# Altium integrated library Linear Technology Power Management LED Driver ICs.IntLib: 490 symbols (part 36 of 48)
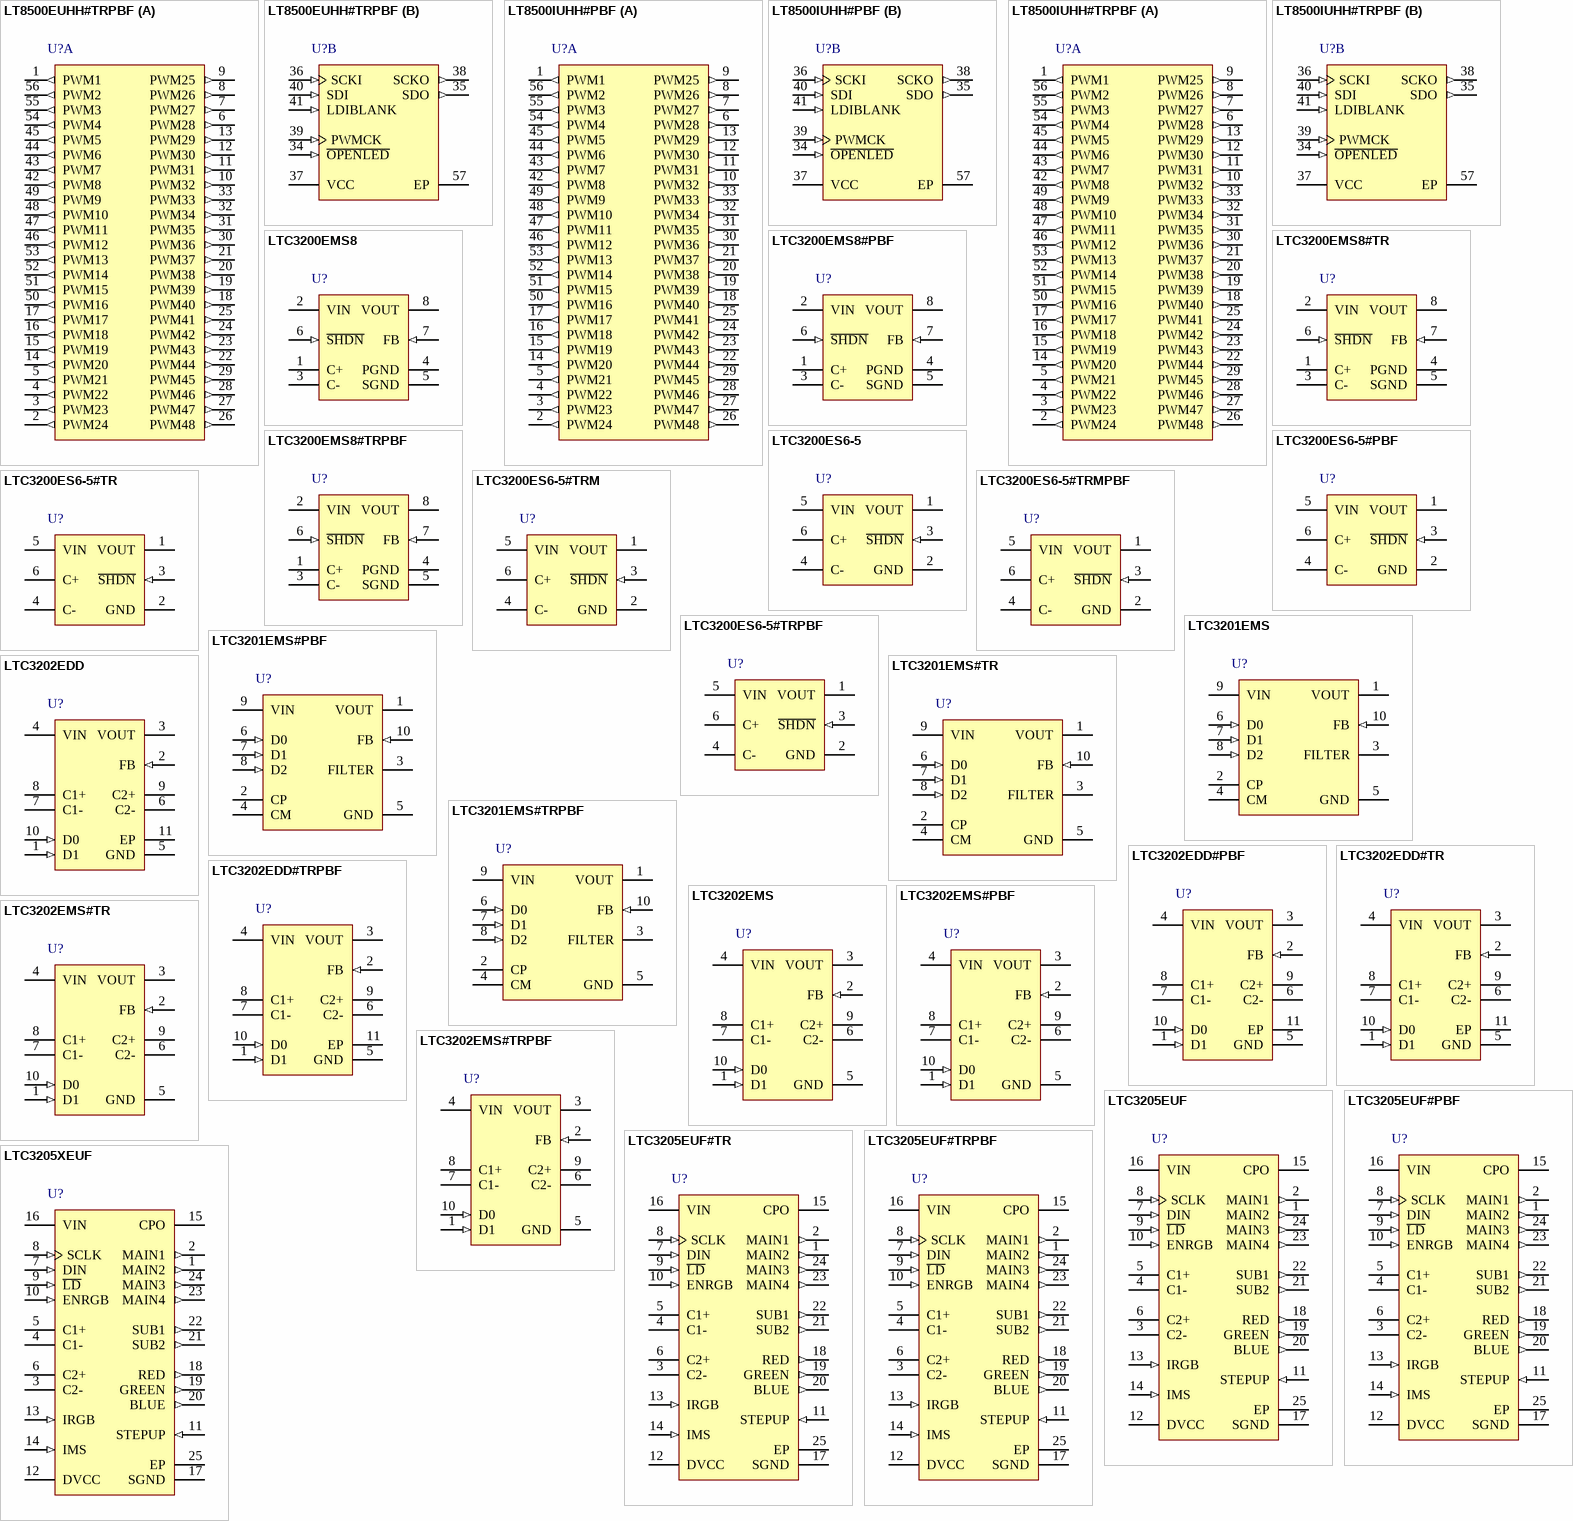
[diagram p55: symbols LT8500EUHH#TRPBF to LTC3205XEUF]

## LT8500IUHH#PBF
designator U?
48-Channel LED PWM Generator with 12-Bit Resolution and 50 MHz Cascadable Serial Interface, 3 to 5.5 V Vin, 56-pin QFN (UHH-56), -40 to 125 degC, Pb-Free; Manufacturer: Linear Technology; PartNumber: LT8500IUHH#PBF; Vin Min(V): 3; PackageVersion: Rev. A, 06/2010; PackageReference: UHH-56; PackageDescription: 56-Pin Plastic QFN, Body 5 x 9 mm, Pitch 0.4 mm; Supplier 1: Digi-Key; Supplier Part Number 1: LT8500IUHH#PBF-ND; RoHS: TRUE; Topology: PWM Generator; Mounting Technology: Surface Mount; ComponentLink1Description: Manufacturer URL; ComponentLink1URL: http://www.linear.com/; ComponentLink2Description: Datasheet; ComponentLink2URL: http://cds.linear.com/docs/en/datasheet/8500f.pdf; ComponentLink3Description: Package Specification; ComponentLink3URL: http://cds.linear.com/docs/en/packaging/QFN_56_05-08-1727.pdf
footprint LT-UHH-56_N (QFN, 56-Leads, Body 9.1x5.1mm, Pitch 0.4mm, Thermal Pad 7.13x3.45mm, IPC Medium Density)
footprint LT-UHH-56_L (QFN, 56-Leads, Body 9.1x5.1mm, Pitch 0.4mm, Thermal Pad 7.13x3.45mm, IPC High Density)
footprint LT-UHH-56_M (QFN, 56-Leads, Body 9.1x5.1mm, Pitch 0.4mm, Thermal Pad 7.13x3.45mm, IPC Low Density)
part A pins: 1 PWM1 (out) "Pulse Width Modulated (PWM) Output Pins. Pulse width is determined by comparing the value in the PWMRSYNC latches to an internal PWMCK counter. Outputs are high when the value in the PWMCK counter is less than the value in (See Datasheet)", 2 PWM24 (out) "Pulse Width Modulated (PWM) Output Pins. Pulse width is determined by comparing the value in the PWMRSYNC latches to an internal PWMCK counter. Outputs are high when the value in the PWMCK counter is less than the value in (See Datasheet)", 3 PWM23 (out) "Pulse Width Modulated (PWM) Output Pins. Pulse width is determined by comparing the value in the PWMRSYNC latches to an internal PWMCK counter. Outputs are high when the value in the PWMCK counter is less than the value in (See Datasheet)", 4 PWM22 (out) "Pulse Width Modulated (PWM) Output Pins. Pulse width is determined by comparing the value in the PWMRSYNC latches to an internal PWMCK counter. Outputs are high when the value in the PWMCK counter is less than the value in (See Datasheet)", 5 PWM21 (out) "Pulse Width Modulated (PWM) Output Pins. Pulse width is determined by comparing the value in the PWMRSYNC latches to an internal PWMCK counter. Outputs are high when the value in the PWMCK counter is less than the value in (See Datasheet)", 6 PWM28 (out) "Pulse Width Modulated (PWM) Output Pins. Pulse width is determined by comparing the value in the PWMRSYNC latches to an internal PWMCK counter. Outputs are high when the value in the PWMCK counter is less than the value in (See Datasheet)", 7 PWM27 (out) "Pulse Width Modulated (PWM) Output Pins. Pulse width is determined by comparing the value in the PWMRSYNC latches to an internal PWMCK counter. Outputs are high when the value in the PWMCK counter is less than the value in (See Datasheet)", 8 PWM26 (out) "Pulse Width Modulated (PWM) Output Pins. Pulse width is determined by comparing the value in the PWMRSYNC latches to an internal PWMCK counter. Outputs are high when the value in the PWMCK counter is less than the value in (See Datasheet)", 9 PWM25 (out) "Pulse Width Modulated (PWM) Output Pins. Pulse width is determined by comparing the value in the PWMRSYNC latches to an internal PWMCK counter. Outputs are high when the value in the PWMCK counter is less than the value in (See Datasheet)", 10 PWM32 (out) "Pulse Width Modulated (PWM) Output Pins. Pulse width is determined by comparing the value in the PWMRSYNC latches to an internal PWMCK counter. Outputs are high when the value in the PWMCK counter is less than the value in (See Datasheet)", 11 PWM31 (out) "Pulse Width Modulated (PWM) Output Pins. Pulse width is determined by comparing the value in the PWMRSYNC latches to an internal PWMCK counter. Outputs are high when the value in the PWMCK counter is less than the value in (See Datasheet)", 12 PWM30 (out) "Pulse Width Modulated (PWM) Output Pins. Pulse width is determined by comparing the value in the PWMRSYNC latches to an internal PWMCK counter. Outputs are high when the value in the PWMCK counter is less than the value in (See Datasheet)", 13 PWM29 (out) "Pulse Width Modulated (PWM) Output Pins. Pulse width is determined by comparing the value in the PWMRSYNC latches to an internal PWMCK counter. Outputs are high when the value in the PWMCK counter is less than the value in (See Datasheet)", 14 PWM20 (out) "Pulse Width Modulated (PWM) Output Pins. Pulse width is determined by comparing the value in the PWMRSYNC latches to an internal PWMCK counter. Outputs are high when the value in the PWMCK counter is less than the value in (See Datasheet)", 15 PWM19 (out) "Pulse Width Modulated (PWM) Output Pins. Pulse width is determined by comparing the value in the PWMRSYNC latches to an internal PWMCK counter. Outputs are high when the value in the PWMCK counter is less than the value in (See Datasheet)", 16 PWM18 (out) "Pulse Width Modulated (PWM) Output Pins. Pulse width is determined by comparing the value in the PWMRSYNC latches to an internal PWMCK counter. Outputs are high when the value in the PWMCK counter is less than the value in (See Datasheet)", 17 PWM17 (out) "Pulse Width Modulated (PWM) Output Pins. Pulse width is determined by comparing the value in the PWMRSYNC latches to an internal PWMCK counter. Outputs are high when the value in the PWMCK counter is less than the value in (See Datasheet)", 18 PWM40 (out) "Pulse Width Modulated (PWM) Output Pins. Pulse width is determined by comparing the value in the PWMRSYNC latches to an internal PWMCK counter. Outputs are high when the value in the PWMCK counter is less than the value in (See Datasheet)", 19 PWM39 (out) "Pulse Width Modulated (PWM) Output Pins. Pulse width is determined by comparing the value in the PWMRSYNC latches to an internal PWMCK counter. Outputs are high when the value in the PWMCK counter is less than the value in (See Datasheet)", 20 PWM38 (out) "Pulse Width Modulated (PWM) Output Pins. Pulse width is determined by comparing the value in the PWMRSYNC latches to an internal PWMCK counter. Outputs are high when the value in the PWMCK counter is less than the value in (See Datasheet)", 21 PWM37 (out) "Pulse Width Modulated (PWM) Output Pins. Pulse width is determined by comparing the value in the PWMRSYNC latches to an internal PWMCK counter. Outputs are high when the value in the PWMCK counter is less than the value in (See Datasheet)", 22 PWM44 (out) "Pulse Width Modulated (PWM) Output Pins. Pulse width is determined by comparing the value in the PWMRSYNC latches to an internal PWMCK counter. Outputs are high when the value in the PWMCK counter is less than the value in (See Datasheet)", 23 PWM43 (out) "Pulse Width Modulated (PWM) Output Pins. Pulse width is determined by comparing the value in the PWMRSYNC latches to an internal PWMCK counter. Outputs are high when the value in the PWMCK counter is less than the value in (See Datasheet)", 24 PWM42 (out) "Pulse Width Modulated (PWM) Output Pins. Pulse width is determined by comparing the value in the PWMRSYNC latches to an internal PWMCK counter. Outputs are high when the value in the PWMCK counter is less than the value in (See Datasheet)", 25 PWM41 (out) "Pulse Width Modulated (PWM) Output Pins. Pulse width is determined by comparing the value in the PWMRSYNC latches to an internal PWMCK counter. Outputs are high when the value in the PWMCK counter is less than the value in (See Datasheet)", 26 PWM48 (out) "Pulse Width Modulated (PWM) Output Pins. Pulse width is determined by comparing the value in the PWMRSYNC latches to an internal PWMCK counter. Outputs are high when the value in the PWMCK counter is less than the value in (See Datasheet)", 27 PWM47 (out) "Pulse Width Modulated (PWM) Output Pins. Pulse width is determined by comparing the value in the PWMRSYNC latches to an internal PWMCK counter. Outputs are high when the value in the PWMCK counter is less than the value in (See Datasheet)", 28 PWM46 (out) "Pulse Width Modulated (PWM) Output Pins. Pulse width is determined by comparing the value in the PWMRSYNC latches to an internal PWMCK counter. Outputs are high when the value in the PWMCK counter is less than the value in (See Datasheet)", 29 PWM45 (out) "Pulse Width Modulated (PWM) Output Pins. Pulse width is determined by comparing the value in the PWMRSYNC latches to an internal PWMCK counter. Outputs are high when the value in the PWMCK counter is less than the value in (See Datasheet)", 30 PWM36 (out) "Pulse Width Modulated (PWM) Output Pins. Pulse width is determined by comparing the value in the PWMRSYNC latches to an internal PWMCK counter. Outputs are high when the value in the PWMCK counter is less than the value in (See Datasheet)", 31 PWM35 (out) "Pulse Width Modulated (PWM) Output Pins. Pulse width is determined by comparing the value in the PWMRSYNC latches to an internal PWMCK counter. Outputs are high when the value in the PWMCK counter is less than the value in (See Datasheet)", 32 PWM34 (out) "Pulse Width Modulated (PWM) Output Pins. Pulse width is determined by comparing the value in the PWMRSYNC latches to an internal PWMCK counter. Outputs are high when the value in the PWMCK counter is less than the value in (See Datasheet)", 33 PWM33 (out) "Pulse Width Modulated (PWM) Output Pins. Pulse width is determined by comparing the value in the PWMRSYNC latches to an internal PWMCK counter. Outputs are high when the value in the PWMCK counter is less than the value in (See Datasheet)", 42 PWM8 (out) "Pulse Width Modulated (PWM) Output Pins. Pulse width is determined by comparing the value in the PWMRSYNC latches to an internal PWMCK counter. Outputs are high when the value in the PWMCK counter is less than the value in (See Datasheet)", 43 PWM7 (out) "Pulse Width Modulated (PWM) Output Pins. Pulse width is determined by comparing the value in the PWMRSYNC latches to an internal PWMCK counter. Outputs are high when the value in the PWMCK counter is less than the value in (See Datasheet)", 44 PWM6 (out) "Pulse Width Modulated (PWM) Output Pins. Pulse width is determined by comparing the value in the PWMRSYNC latches to an internal PWMCK counter. Outputs are high when the value in the PWMCK counter is less than the value in (See Datasheet)", 45 PWM5 (out) "Pulse Width Modulated (PWM) Output Pins. Pulse width is determined by comparing the value in the PWMRSYNC latches to an internal PWMCK counter. Outputs are high when the value in the PWMCK counter is less than the value in (See Datasheet)", 46 PWM12 (out) "Pulse Width Modulated (PWM) Output Pins. Pulse width is determined by comparing the value in the PWMRSYNC latches to an internal PWMCK counter. Outputs are high when the value in the PWMCK counter is less than the value in (See Datasheet)", 47 PWM11 (out) "Pulse Width Modulated (PWM) Output Pins. Pulse width is determined by comparing the value in the PWMRSYNC latches to an internal PWMCK counter. Outputs are high when the value in the PWMCK counter is less than the value in (See Datasheet)", 48 PWM10 (out) "Pulse Width Modulated (PWM) Output Pins. Pulse width is determined by comparing the value in the PWMRSYNC latches to an internal PWMCK counter. Outputs are high when the value in the PWMCK counter is less than the value in (See Datasheet)", 49 PWM9 (out) "Pulse Width Modulated (PWM) Output Pins. Pulse width is determined by comparing the value in the PWMRSYNC latches to an internal PWMCK counter. Outputs are high when the value in the PWMCK counter is less than the value in (See Datasheet)", 50 PWM16 (out) "Pulse Width Modulated (PWM) Output Pins. Pulse width is determined by comparing the value in the PWMRSYNC latches to an internal PWMCK counter. Outputs are high when the value in the PWMCK counter is less than the value in (See Datasheet)", 51 PWM15 (out) "Pulse Width Modulated (PWM) Output Pins. Pulse width is determined by comparing the value in the PWMRSYNC latches to an internal PWMCK counter. Outputs are high when the value in the PWMCK counter is less than the value in (See Datasheet)", 52 PWM14 (out) "Pulse Width Modulated (PWM) Output Pins. Pulse width is determined by comparing the value in the PWMRSYNC latches to an internal PWMCK counter. Outputs are high when the value in the PWMCK counter is less than the value in (See Datasheet)", 53 PWM13 (out) "Pulse Width Modulated (PWM) Output Pins. Pulse width is determined by comparing the value in the PWMRSYNC latches to an internal PWMCK counter. Outputs are high when the value in the PWMCK counter is less than the value in (See Datasheet)", 54 PWM4 (out) "Pulse Width Modulated (PWM) Output Pins. Pulse width is determined by comparing the value in the PWMRSYNC latches to an internal PWMCK counter. Outputs are high when the value in the PWMCK counter is less than the value in (See Datasheet)", 55 PWM3 (out) "Pulse Width Modulated (PWM) Output Pins. Pulse width is determined by comparing the value in the PWMRSYNC latches to an internal PWMCK counter. Outputs are high when the value in the PWMCK counter is less than the value in (See Datasheet)", 56 PWM2 (out) "Pulse Width Modulated (PWM) Output Pins. Pulse width is determined by comparing the value in the PWMRSYNC latches to an internal PWMCK counter. Outputs are high when the value in the PWMCK counter is less than the value in (See Datasheet)"
part B pins: 34 ~{OPENLED} (in) "Not Open LED Input Pin. This input passes diagnostic information to the host via the status frame. When used with LT3595A LED drivers, it connects to the wired-OR (open collector) O\P\E\N\L\E\D\ outputs which indicate an (See Datasheet)", 35 SDO (out) "Serial Data Output Pin. This pin is the output of the shift register (SR), and cascades data to downstream chips or returns data to the host.", 36 SCKI (in) "Serial Clock Input Pin. This clock pin provides timing for the serial interface and the calculation of PWM values in the correction multiplier. This clock is independent of PWMCK.", 37 VCC (power) "Supply Pin. 3.0V to 5.5V. Must be locally bypassed with a capacitor to ground.", 38 SCKO (out) "Serial Clock Output Pin. Buffered pass through of SCKI. This pin cascades the clock to the next chip or to the host.", 39 PWMCK (in) "PWM Clock Input Pin. This pin provides PWM timing for the outputs. Each PWM signal is generated by counting the pulses on this clock from zero to the calculated value in the PWM synchronization register (PWMRSYNC). This (See Datasheet)", 40 SDI (in) "Serial Data Input Pin. This pin provides serial interface data to issue commands and set up the individual PWM channels.", 41 LDIBLANK (in) "Latch Data In/Blank Input Pin. This is a dual function pin. LDI Function: The internal LDI signal is directly connected to the LDIBLANK pin. A logic high on the pin always asserts the LDI function. The rising edge of (See Datasheet)", 57 EP (power) "This is the ground reference for the chip."

## LT8500IUHH#TRPBF
designator U?
48-Channel LED PWM Generator with 12-Bit Resolution and 50 MHz Cascadable Serial Interface, 3 to 5.5 V Vin, 56-pin QFN (UHH-56), -40 to 125 degC, Pb-Free, Tape and Reel; Manufacturer: Linear Technology; PartNumber: LT8500IUHH#TRPBF; Vin Min(V): 3; PackageVersion: Rev. A, 06/2010; PackageReference: UHH-56; PackageDescription: 56-Pin Plastic QFN, Body 5 x 9 mm, Pitch 0.4 mm; Supplier 1: Digi-Key; Supplier Part Number 1: LT8500IUHH#TRPBF-ND; Packing: Tape and Reel; RoHS: TRUE; Topology: PWM Generator; Mounting Technology: Surface Mount; ComponentLink1Description: Manufacturer URL; ComponentLink1URL: http://www.linear.com/; ComponentLink2Description: Datasheet; ComponentLink2URL: http://cds.linear.com/docs/en/datasheet/8500f.pdf; ComponentLink3Description: Package Specification; ComponentLink3URL: http://cds.linear.com/docs/en/packaging/QFN_56_05-08-1727.pdf
footprint LT-UHH-56_N (QFN, 56-Leads, Body 9.1x5.1mm, Pitch 0.4mm, Thermal Pad 7.13x3.45mm, IPC Medium Density)
footprint LT-UHH-56_L (QFN, 56-Leads, Body 9.1x5.1mm, Pitch 0.4mm, Thermal Pad 7.13x3.45mm, IPC High Density)
footprint LT-UHH-56_M (QFN, 56-Leads, Body 9.1x5.1mm, Pitch 0.4mm, Thermal Pad 7.13x3.45mm, IPC Low Density)
part A pins: 1 PWM1 (out) "Pulse Width Modulated (PWM) Output Pins. Pulse width is determined by comparing the value in the PWMRSYNC latches to an internal PWMCK counter. Outputs are high when the value in the PWMCK counter is less than the value in (See Datasheet)", 2 PWM24 (out) "Pulse Width Modulated (PWM) Output Pins. Pulse width is determined by comparing the value in the PWMRSYNC latches to an internal PWMCK counter. Outputs are high when the value in the PWMCK counter is less than the value in (See Datasheet)", 3 PWM23 (out) "Pulse Width Modulated (PWM) Output Pins. Pulse width is determined by comparing the value in the PWMRSYNC latches to an internal PWMCK counter. Outputs are high when the value in the PWMCK counter is less than the value in (See Datasheet)", 4 PWM22 (out) "Pulse Width Modulated (PWM) Output Pins. Pulse width is determined by comparing the value in the PWMRSYNC latches to an internal PWMCK counter. Outputs are high when the value in the PWMCK counter is less than the value in (See Datasheet)", 5 PWM21 (out) "Pulse Width Modulated (PWM) Output Pins. Pulse width is determined by comparing the value in the PWMRSYNC latches to an internal PWMCK counter. Outputs are high when the value in the PWMCK counter is less than the value in (See Datasheet)", 6 PWM28 (out) "Pulse Width Modulated (PWM) Output Pins. Pulse width is determined by comparing the value in the PWMRSYNC latches to an internal PWMCK counter. Outputs are high when the value in the PWMCK counter is less than the value in (See Datasheet)", 7 PWM27 (out) "Pulse Width Modulated (PWM) Output Pins. Pulse width is determined by comparing the value in the PWMRSYNC latches to an internal PWMCK counter. Outputs are high when the value in the PWMCK counter is less than the value in (See Datasheet)", 8 PWM26 (out) "Pulse Width Modulated (PWM) Output Pins. Pulse width is determined by comparing the value in the PWMRSYNC latches to an internal PWMCK counter. Outputs are high when the value in the PWMCK counter is less than the value in (See Datasheet)", 9 PWM25 (out) "Pulse Width Modulated (PWM) Output Pins. Pulse width is determined by comparing the value in the PWMRSYNC latches to an internal PWMCK counter. Outputs are high when the value in the PWMCK counter is less than the value in (See Datasheet)", 10 PWM32 (out) "Pulse Width Modulated (PWM) Output Pins. Pulse width is determined by comparing the value in the PWMRSYNC latches to an internal PWMCK counter. Outputs are high when the value in the PWMCK counter is less than the value in (See Datasheet)", 11 PWM31 (out) "Pulse Width Modulated (PWM) Output Pins. Pulse width is determined by comparing the value in the PWMRSYNC latches to an internal PWMCK counter. Outputs are high when the value in the PWMCK counter is less than the value in (See Datasheet)", 12 PWM30 (out) "Pulse Width Modulated (PWM) Output Pins. Pulse width is determined by comparing the value in the PWMRSYNC latches to an internal PWMCK counter. Outputs are high when the value in the PWMCK counter is less than the value in (See Datasheet)", 13 PWM29 (out) "Pulse Width Modulated (PWM) Output Pins. Pulse width is determined by comparing the value in the PWMRSYNC latches to an internal PWMCK counter. Outputs are high when the value in the PWMCK counter is less than the value in (See Datasheet)", 14 PWM20 (out) "Pulse Width Modulated (PWM) Output Pins. Pulse width is determined by comparing the value in the PWMRSYNC latches to an internal PWMCK counter. Outputs are high when the value in the PWMCK counter is less than the value in (See Datasheet)", 15 PWM19 (out) "Pulse Width Modulated (PWM) Output Pins. Pulse width is determined by comparing the value in the PWMRSYNC latches to an internal PWMCK counter. Outputs are high when the value in the PWMCK counter is less than the value in (See Datasheet)", 16 PWM18 (out) "Pulse Width Modulated (PWM) Output Pins. Pulse width is determined by comparing the value in the PWMRSYNC latches to an internal PWMCK counter. Outputs are high when the value in the PWMCK counter is less than the value in (See Datasheet)", 17 PWM17 (out) "Pulse Width Modulated (PWM) Output Pins. Pulse width is determined by comparing the value in the PWMRSYNC latches to an internal PWMCK counter. Outputs are high when the value in the PWMCK counter is less than the value in (See Datasheet)", 18 PWM40 (out) "Pulse Width Modulated (PWM) Output Pins. Pulse width is determined by comparing the value in the PWMRSYNC latches to an internal PWMCK counter. Outputs are high when the value in the PWMCK counter is less than the value in (See Datasheet)", 19 PWM39 (out) "Pulse Width Modulated (PWM) Output Pins. Pulse width is determined by comparing the value in the PWMRSYNC latches to an internal PWMCK counter. Outputs are high when the value in the PWMCK counter is less than the value in (See Datasheet)", 20 PWM38 (out) "Pulse Width Modulated (PWM) Output Pins. Pulse width is determined by comparing the value in the PWMRSYNC latches to an internal PWMCK counter. Outputs are high when the value in the PWMCK counter is less than the value in (See Datasheet)", 21 PWM37 (out) "Pulse Width Modulated (PWM) Output Pins. Pulse width is determined by comparing the value in the PWMRSYNC latches to an internal PWMCK counter. Outputs are high when the value in the PWMCK counter is less than the value in (See Datasheet)", 22 PWM44 (out) "Pulse Width Modulated (PWM) Output Pins. Pulse width is determined by comparing the value in the PWMRSYNC latches to an internal PWMCK counter. Outputs are high when the value in the PWMCK counter is less than the value in (See Datasheet)", 23 PWM43 (out) "Pulse Width Modulated (PWM) Output Pins. Pulse width is determined by comparing the value in the PWMRSYNC latches to an internal PWMCK counter. Outputs are high when the value in the PWMCK counter is less than the value in (See Datasheet)", 24 PWM42 (out) "Pulse Width Modulated (PWM) Output Pins. Pulse width is determined by comparing the value in the PWMRSYNC latches to an internal PWMCK counter. Outputs are high when the value in the PWMCK counter is less than the value in (See Datasheet)", 25 PWM41 (out) "Pulse Width Modulated (PWM) Output Pins. Pulse width is determined by comparing the value in the PWMRSYNC latches to an internal PWMCK counter. Outputs are high when the value in the PWMCK counter is less than the value in (See Datasheet)", 26 PWM48 (out) "Pulse Width Modulated (PWM) Output Pins. Pulse width is determined by comparing the value in the PWMRSYNC latches to an internal PWMCK counter. Outputs are high when the value in the PWMCK counter is less than the value in (See Datasheet)", 27 PWM47 (out) "Pulse Width Modulated (PWM) Output Pins. Pulse width is determined by comparing the value in the PWMRSYNC latches to an internal PWMCK counter. Outputs are high when the value in the PWMCK counter is less than the value in (See Datasheet)", 28 PWM46 (out) "Pulse Width Modulated (PWM) Output Pins. Pulse width is determined by comparing the value in the PWMRSYNC latches to an internal PWMCK counter. Outputs are high when the value in the PWMCK counter is less than the value in (See Datasheet)", 29 PWM45 (out) "Pulse Width Modulated (PWM) Output Pins. Pulse width is determined by comparing the value in the PWMRSYNC latches to an internal PWMCK counter. Outputs are high when the value in the PWMCK counter is less than the value in (See Datasheet)", 30 PWM36 (out) "Pulse Width Modulated (PWM) Output Pins. Pulse width is determined by comparing the value in the PWMRSYNC latches to an internal PWMCK counter. Outputs are high when the value in the PWMCK counter is less than the value in (See Datasheet)", 31 PWM35 (out) "Pulse Width Modulated (PWM) Output Pins. Pulse width is determined by comparing the value in the PWMRSYNC latches to an internal PWMCK counter. Outputs are high when the value in the PWMCK counter is less than the value in (See Datasheet)", 32 PWM34 (out) "Pulse Width Modulated (PWM) Output Pins. Pulse width is determined by comparing the value in the PWMRSYNC latches to an internal PWMCK counter. Outputs are high when the value in the PWMCK counter is less than the value in (See Datasheet)", 33 PWM33 (out) "Pulse Width Modulated (PWM) Output Pins. Pulse width is determined by comparing the value in the PWMRSYNC latches to an internal PWMCK counter. Outputs are high when the value in the PWMCK counter is less than the value in (See Datasheet)", 42 PWM8 (out) "Pulse Width Modulated (PWM) Output Pins. Pulse width is determined by comparing the value in the PWMRSYNC latches to an internal PWMCK counter. Outputs are high when the value in the PWMCK counter is less than the value in (See Datasheet)", 43 PWM7 (out) "Pulse Width Modulated (PWM) Output Pins. Pulse width is determined by comparing the value in the PWMRSYNC latches to an internal PWMCK counter. Outputs are high when the value in the PWMCK counter is less than the value in (See Datasheet)", 44 PWM6 (out) "Pulse Width Modulated (PWM) Output Pins. Pulse width is determined by comparing the value in the PWMRSYNC latches to an internal PWMCK counter. Outputs are high when the value in the PWMCK counter is less than the value in (See Datasheet)", 45 PWM5 (out) "Pulse Width Modulated (PWM) Output Pins. Pulse width is determined by comparing the value in the PWMRSYNC latches to an internal PWMCK counter. Outputs are high when the value in the PWMCK counter is less than the value in (See Datasheet)", 46 PWM12 (out) "Pulse Width Modulated (PWM) Output Pins. Pulse width is determined by comparing the value in the PWMRSYNC latches to an internal PWMCK counter. Outputs are high when the value in the PWMCK counter is less than the value in (See Datasheet)", 47 PWM11 (out) "Pulse Width Modulated (PWM) Output Pins. Pulse width is determined by comparing the value in the PWMRSYNC latches to an internal PWMCK counter. Outputs are high when the value in the PWMCK counter is less than the value in (See Datasheet)", 48 PWM10 (out) "Pulse Width Modulated (PWM) Output Pins. Pulse width is determined by comparing the value in the PWMRSYNC latches to an internal PWMCK counter. Outputs are high when the value in the PWMCK counter is less than the value in (See Datasheet)", 49 PWM9 (out) "Pulse Width Modulated (PWM) Output Pins. Pulse width is determined by comparing the value in the PWMRSYNC latches to an internal PWMCK counter. Outputs are high when the value in the PWMCK counter is less than the value in (See Datasheet)", 50 PWM16 (out) "Pulse Width Modulated (PWM) Output Pins. Pulse width is determined by comparing the value in the PWMRSYNC latches to an internal PWMCK counter. Outputs are high when the value in the PWMCK counter is less than the value in (See Datasheet)", 51 PWM15 (out) "Pulse Width Modulated (PWM) Output Pins. Pulse width is determined by comparing the value in the PWMRSYNC latches to an internal PWMCK counter. Outputs are high when the value in the PWMCK counter is less than the value in (See Datasheet)", 52 PWM14 (out) "Pulse Width Modulated (PWM) Output Pins. Pulse width is determined by comparing the value in the PWMRSYNC latches to an internal PWMCK counter. Outputs are high when the value in the PWMCK counter is less than the value in (See Datasheet)", 53 PWM13 (out) "Pulse Width Modulated (PWM) Output Pins. Pulse width is determined by comparing the value in the PWMRSYNC latches to an internal PWMCK counter. Outputs are high when the value in the PWMCK counter is less than the value in (See Datasheet)", 54 PWM4 (out) "Pulse Width Modulated (PWM) Output Pins. Pulse width is determined by comparing the value in the PWMRSYNC latches to an internal PWMCK counter. Outputs are high when the value in the PWMCK counter is less than the value in (See Datasheet)", 55 PWM3 (out) "Pulse Width Modulated (PWM) Output Pins. Pulse width is determined by comparing the value in the PWMRSYNC latches to an internal PWMCK counter. Outputs are high when the value in the PWMCK counter is less than the value in (See Datasheet)", 56 PWM2 (out) "Pulse Width Modulated (PWM) Output Pins. Pulse width is determined by comparing the value in the PWMRSYNC latches to an internal PWMCK counter. Outputs are high when the value in the PWMCK counter is less than the value in (See Datasheet)"
part B pins: 34 ~{OPENLED} (in) "Not Open LED Input Pin. This input passes diagnostic information to the host via the status frame. When used with LT3595A LED drivers, it connects to the wired-OR (open collector) O\P\E\N\L\E\D\ outputs which indicate an (See Datasheet)", 35 SDO (out) "Serial Data Output Pin. This pin is the output of the shift register (SR), and cascades data to downstream chips or returns data to the host.", 36 SCKI (in) "Serial Clock Input Pin. This clock pin provides timing for the serial interface and the calculation of PWM values in the correction multiplier. This clock is independent of PWMCK.", 37 VCC (power) "Supply Pin. 3.0V to 5.5V. Must be locally bypassed with a capacitor to ground.", 38 SCKO (out) "Serial Clock Output Pin. Buffered pass through of SCKI. This pin cascades the clock to the next chip or to the host.", 39 PWMCK (in) "PWM Clock Input Pin. This pin provides PWM timing for the outputs. Each PWM signal is generated by counting the pulses on this clock from zero to the calculated value in the PWM synchronization register (PWMRSYNC). This (See Datasheet)", 40 SDI (in) "Serial Data Input Pin. This pin provides serial interface data to issue commands and set up the individual PWM channels.", 41 LDIBLANK (in) "Latch Data In/Blank Input Pin. This is a dual function pin. LDI Function: The internal LDI signal is directly connected to the LDIBLANK pin. A logic high on the pin always asserts the LDI function. The rising edge of (See Datasheet)", 57 EP (power) "This is the ground reference for the chip."

## LTC3200EMS8
designator U?
Low Noise, Doubler / White LED Driver, 2.7 to 4.5 V Vin, 5.2 V Vout MAX, 8-pin SOP (MS8-8), -40 to 85 degC; Manufacturer: Linear Technology; PartNumber: LTC3200EMS8; Topology: Charge Pump, LED Driver; Vin Min(V): 2.7; PackageVersion: Rev. G, 03/2012; PackageReference: MS8-8; PackageDescription: 8-Pin Plastic MSOP, Body 3 x 3 mm, Pitch 0.65 mm; Supplier 1: Digi-Key; Supplier Part Number 1: LTC3200EMS8-ND; Supplier 2: Newark; Supplier Part Number 2: 56M7317; RoHS: FALSE; Mounting Technology: Surface Mount; ComponentLink1Description: Manufacturer URL; ComponentLink1URL: http://www.linear.com/; ComponentLink2Description: Datasheet; ComponentLink2URL: http://cds.linear.com/docs/en/datasheet/32005f.pdf; ComponentLink3Description: Package Specification; ComponentLink3URL: http://cds.linear.com/docs/en/packaging/05081660_G_MS8.pdf
footprint LT-MS8-8_N (SOP, 8-Leads, Body 3.1x3.1mm, Pitch 0.65mm, IPC Medium Density)
footprint LT-MS8-8_L (SOP, 8-Leads, Body 3.1x3.1mm, Pitch 0.65mm, IPC High Density)
footprint LT-MS8-8_M (SOP, 8-Leads, Body 3.1x3.1mm, Pitch 0.65mm, IPC Low Density)
pins: 1 C+ "Flying Capacitor Positive Terminal.", 2 VIN (power) "Input Supply Voltage. VIN should be bypassed with a 1uF to 4.7uF low ESR ceramic capacitor.", 3 C- "Flying Capacitor Negative Terminal.", 4 PGND (power) "Ground. Should be tied to a ground plane for best performance.", 5 SGND (power) "Ground. Should be tied to a ground plane for best performance.", 6 ~{SHDN} (in) "Active Low Shutdown Input. A low on S\H\D\N\ disables the LTC3200/LTC3200-5. S\H\D\N\ must not be allowed to float.", 7 FB (in) "Feedback Input Pin. An output divider should be connected from VOUT to FB to program the output voltage.", 8 VOUT (power) "Regulated Output Voltage. VOUT should be bypassed with a 1uF to 4.7uF low ESR ceramic capacitor as close as possible to the pin for best performance."

## LTC3200EMS8#PBF
designator U?
Low Noise, Doubler / White LED Driver, 2.7 to 4.5 V Vin, 5.2 V Vout MAX, 8-pin SOP (MS8-8), -40 to 85 degC, Pb-Free; Manufacturer: Linear Technology; PartNumber: LTC3200EMS8#PBF; Topology: Charge Pump, LED Driver; Vin Min(V): 2.7; PackageVersion: Rev. G, 03/2012; PackageReference: MS8-8; PackageDescription: 8-Pin Plastic MSOP, Body 3 x 3 mm, Pitch 0.65 mm; Supplier 1: Digi-Key; Supplier Part Number 1: LTC3200EMS8#PBF-ND; Supplier 2: Newark; Supplier Part Number 2: 56M7318; RoHS: TRUE; Mounting Technology: Surface Mount; ComponentLink1Description: Manufacturer URL; ComponentLink1URL: http://www.linear.com/; ComponentLink2Description: Datasheet; ComponentLink2URL: http://cds.linear.com/docs/en/datasheet/32005f.pdf; ComponentLink3Description: Package Specification; ComponentLink3URL: http://cds.linear.com/docs/en/packaging/05081660_G_MS8.pdf
footprint LT-MS8-8_N (SOP, 8-Leads, Body 3.1x3.1mm, Pitch 0.65mm, IPC Medium Density)
footprint LT-MS8-8_L (SOP, 8-Leads, Body 3.1x3.1mm, Pitch 0.65mm, IPC High Density)
footprint LT-MS8-8_M (SOP, 8-Leads, Body 3.1x3.1mm, Pitch 0.65mm, IPC Low Density)
pins: 1 C+ "Flying Capacitor Positive Terminal.", 2 VIN (power) "Input Supply Voltage. VIN should be bypassed with a 1uF to 4.7uF low ESR ceramic capacitor.", 3 C- "Flying Capacitor Negative Terminal.", 4 PGND (power) "Ground. Should be tied to a ground plane for best performance.", 5 SGND (power) "Ground. Should be tied to a ground plane for best performance.", 6 ~{SHDN} (in) "Active Low Shutdown Input. A low on S\H\D\N\ disables the LTC3200/LTC3200-5. S\H\D\N\ must not be allowed to float.", 7 FB (in) "Feedback Input Pin. An output divider should be connected from VOUT to FB to program the output voltage.", 8 VOUT (power) "Regulated Output Voltage. VOUT should be bypassed with a 1uF to 4.7uF low ESR ceramic capacitor as close as possible to the pin for best performance."

## LTC3200EMS8#TR
designator U?
Low Noise, Doubler / White LED Driver, 2.7 to 4.5 V Vin, 5.2 V Vout MAX, 8-pin SOP (MS8-8), -40 to 85 degC, Tape and Reel; Manufacturer: Linear Technology; PartNumber: LTC3200EMS8#TR; Topology: Charge Pump, LED Driver; Vin Min(V): 2.7; PackageVersion: Rev. G, 03/2012; PackageReference: MS8-8; PackageDescription: 8-Pin Plastic MSOP, Body 3 x 3 mm, Pitch 0.65 mm; Supplier 1: Digi-Key; Supplier Part Number 1: LTC3200EMS8#TR-ND; Packing: Tape and Reel; RoHS: FALSE; Mounting Technology: Surface Mount; ComponentLink1Description: Manufacturer URL; ComponentLink1URL: http://www.linear.com/; ComponentLink2Description: Datasheet; ComponentLink2URL: http://cds.linear.com/docs/en/datasheet/32005f.pdf; ComponentLink3Description: Package Specification; ComponentLink3URL: http://cds.linear.com/docs/en/packaging/05081660_G_MS8.pdf
footprint LT-MS8-8_N (SOP, 8-Leads, Body 3.1x3.1mm, Pitch 0.65mm, IPC Medium Density)
footprint LT-MS8-8_L (SOP, 8-Leads, Body 3.1x3.1mm, Pitch 0.65mm, IPC High Density)
footprint LT-MS8-8_M (SOP, 8-Leads, Body 3.1x3.1mm, Pitch 0.65mm, IPC Low Density)
pins: 1 C+ "Flying Capacitor Positive Terminal.", 2 VIN (power) "Input Supply Voltage. VIN should be bypassed with a 1uF to 4.7uF low ESR ceramic capacitor.", 3 C- "Flying Capacitor Negative Terminal.", 4 PGND (power) "Ground. Should be tied to a ground plane for best performance.", 5 SGND (power) "Ground. Should be tied to a ground plane for best performance.", 6 ~{SHDN} (in) "Active Low Shutdown Input. A low on S\H\D\N\ disables the LTC3200/LTC3200-5. S\H\D\N\ must not be allowed to float.", 7 FB (in) "Feedback Input Pin. An output divider should be connected from VOUT to FB to program the output voltage.", 8 VOUT (power) "Regulated Output Voltage. VOUT should be bypassed with a 1uF to 4.7uF low ESR ceramic capacitor as close as possible to the pin for best performance."

## LTC3200EMS8#TRPBF
designator U?
Low Noise, Doubler / White LED Driver, 2.7 to 4.5 V Vin, 5.2 V Vout MAX, 8-pin SOP (MS8-8), -40 to 85 degC, Pb-Free, Tape and Reel; Manufacturer: Linear Technology; PartNumber: LTC3200EMS8#TRPBF; Topology: Charge Pump, LED Driver; Vin Min(V): 2.7; PackageVersion: Rev. G, 03/2012; PackageReference: MS8-8; PackageDescription: 8-Pin Plastic MSOP, Body 3 x 3 mm, Pitch 0.65 mm; Supplier 1: Digi-Key; Supplier Part Number 1: LTC3200EMS8#TRPBF-ND; Packing: Tape and Reel; RoHS: TRUE; Mounting Technology: Surface Mount; ComponentLink1Description: Manufacturer URL; ComponentLink1URL: http://www.linear.com/; ComponentLink2Description: Datasheet; ComponentLink2URL: http://cds.linear.com/docs/en/datasheet/32005f.pdf; ComponentLink3Description: Package Specification; ComponentLink3URL: http://cds.linear.com/docs/en/packaging/05081660_G_MS8.pdf
footprint LT-MS8-8_N (SOP, 8-Leads, Body 3.1x3.1mm, Pitch 0.65mm, IPC Medium Density)
footprint LT-MS8-8_L (SOP, 8-Leads, Body 3.1x3.1mm, Pitch 0.65mm, IPC High Density)
footprint LT-MS8-8_M (SOP, 8-Leads, Body 3.1x3.1mm, Pitch 0.65mm, IPC Low Density)
pins: 1 C+ "Flying Capacitor Positive Terminal.", 2 VIN (power) "Input Supply Voltage. VIN should be bypassed with a 1uF to 4.7uF low ESR ceramic capacitor.", 3 C- "Flying Capacitor Negative Terminal.", 4 PGND (power) "Ground. Should be tied to a ground plane for best performance.", 5 SGND (power) "Ground. Should be tied to a ground plane for best performance.", 6 ~{SHDN} (in) "Active Low Shutdown Input. A low on S\H\D\N\ disables the LTC3200/LTC3200-5. S\H\D\N\ must not be allowed to float.", 7 FB (in) "Feedback Input Pin. An output divider should be connected from VOUT to FB to program the output voltage.", 8 VOUT (power) "Regulated Output Voltage. VOUT should be bypassed with a 1uF to 4.7uF low ESR ceramic capacitor as close as possible to the pin for best performance."

## LTC3200ES6-5
designator U?
Low Noise, Doubler / White LED Driver, 2.7 to 4.5 V Vin, 5 V Vout MAX, 6-pin SOT23 (S6-6), -40 to 85 degC; Manufacturer: Linear Technology; PartNumber: LTC3200ES6-5; Topology: Charge Pump, LED Driver; Vin Min(V): 2.7; PackageVersion: Jun-10; PackageReference: S6-6; PackageDescription: 6-Pin Plastic TSOT-23, Body 2.9 x 1.63 mm, Pitch 0.95 mm; RoHS: FALSE; Mounting Technology: Surface Mount; Code_JEDEC: MO-193; ComponentLink1Description: Manufacturer URL; ComponentLink1URL: http://www.linear.com/; ComponentLink2Description: Datasheet; ComponentLink2URL: http://cds.linear.com/docs/en/datasheet/32005f.pdf; ComponentLink3Description: Package Specification; ComponentLink3URL: http://cds.linear.com/docs/en/packaging/SOT_6_05-08-1636.pdf
footprint LT-S6-6-TSOT-23_N (SOT23, 6-Leads, Body 2.9x1.75mm, Pitch 0.95mm, IPC Medium Density)
footprint LT-S6-6-TSOT-23_L (SOT23, 6-Leads, Body 2.9x1.75mm, Pitch 0.95mm, IPC High Density)
footprint LT-S6-6-TSOT-23_M (SOT23, 6-Leads, Body 2.9x1.75mm, Pitch 0.95mm, IPC Low Density)
pins: 1 VOUT (power), 2 GND (power) "Ground. Should be tied to a ground plane for best performance.", 3 ~{SHDN} (in), 4 C- "Flying Capacitor Negative Terminal", 5 VIN (power), 6 C+ "Flying Capacitor Positive Terminal."

## LTC3200ES6-5#PBF
designator U?
Low Noise, Doubler / White LED Driver, 2.7 to 4.5 V Vin, 5 V Vout MAX, 6-pin SOT23 (S6-6), -40 to 85 degC, Pb-Free; Manufacturer: Linear Technology; PartNumber: LTC3200ES6-5#PBF; Topology: Charge Pump, LED Driver; Vin Min(V): 2.7; PackageVersion: Jun-10; PackageReference: S6-6; PackageDescription: 6-Pin Plastic TSOT-23, Body 2.9 x 1.63 mm, Pitch 0.95 mm; Supplier 1: Farnell; Supplier Part Number 1: 2308139; Supplier 2: Newark; Supplier Part Number 2: 78T3157; RoHS: TRUE; Mounting Technology: Surface Mount; Code_JEDEC: MO-193; ComponentLink1Description: Manufacturer URL; ComponentLink1URL: http://www.linear.com/; ComponentLink2Description: Datasheet; ComponentLink2URL: http://cds.linear.com/docs/en/datasheet/32005f.pdf; ComponentLink3Description: Package Specification; ComponentLink3URL: http://cds.linear.com/docs/en/packaging/SOT_6_05-08-1636.pdf
footprint LT-S6-6-TSOT-23_N (SOT23, 6-Leads, Body 2.9x1.75mm, Pitch 0.95mm, IPC Medium Density)
footprint LT-S6-6-TSOT-23_L (SOT23, 6-Leads, Body 2.9x1.75mm, Pitch 0.95mm, IPC High Density)
footprint LT-S6-6-TSOT-23_M (SOT23, 6-Leads, Body 2.9x1.75mm, Pitch 0.95mm, IPC Low Density)
pins: 1 VOUT (power), 2 GND (power) "Ground. Should be tied to a ground plane for best performance.", 3 ~{SHDN} (in), 4 C- "Flying Capacitor Negative Terminal", 5 VIN (power), 6 C+ "Flying Capacitor Positive Terminal."

## LTC3200ES6-5#TR
designator U?
Low Noise, Doubler / White LED Driver, 2.7 to 4.5 V Vin, 5 V Vout MAX, 6-pin SOT23 (S6-6), -40 to 85 degC, Tape and Reel; Manufacturer: Linear Technology; PartNumber: LTC3200ES6-5#TR; Topology: Charge Pump, LED Driver; Vin Min(V): 2.7; PackageVersion: Jun-10; PackageReference: S6-6; PackageDescription: 6-Pin Plastic TSOT-23, Body 2.9 x 1.63 mm, Pitch 0.95 mm; Supplier 1: Digi-Key; Supplier Part Number 1: LTC3200ES6-5#TR-ND; Supplier 2: Newark; Supplier Part Number 2: 56M7321; Packing: Tape and Reel; RoHS: FALSE; Mounting Technology: Surface Mount; Code_JEDEC: MO-193; ComponentLink1Description: Manufacturer URL; ComponentLink1URL: http://www.linear.com/; ComponentLink2Description: Datasheet; ComponentLink2URL: http://cds.linear.com/docs/en/datasheet/32005f.pdf; ComponentLink3Description: Package Specification; ComponentLink3URL: http://cds.linear.com/docs/en/packaging/SOT_6_05-08-1636.pdf
footprint LT-S6-6-TSOT-23_N (SOT23, 6-Leads, Body 2.9x1.75mm, Pitch 0.95mm, IPC Medium Density)
footprint LT-S6-6-TSOT-23_L (SOT23, 6-Leads, Body 2.9x1.75mm, Pitch 0.95mm, IPC High Density)
footprint LT-S6-6-TSOT-23_M (SOT23, 6-Leads, Body 2.9x1.75mm, Pitch 0.95mm, IPC Low Density)
pins: 1 VOUT (power), 2 GND (power) "Ground. Should be tied to a ground plane for best performance.", 3 ~{SHDN} (in), 4 C- "Flying Capacitor Negative Terminal", 5 VIN (power), 6 C+ "Flying Capacitor Positive Terminal."

## LTC3200ES6-5#TRM
designator U?
Low Noise, Doubler / White LED Driver, 2.7 to 4.5 V Vin, 5 V Vout MAX, 6-pin SOT23 (S6-6), -40 to 85 degC, Mini Tape and Reel; Manufacturer: Linear Technology; PartNumber: LTC3200ES6-5#TRM; Topology: Charge Pump, LED Driver; Vin Min(V): 2.7; PackageVersion: Jun-10; PackageReference: S6-6; PackageDescription: 6-Pin Plastic TSOT-23, Body 2.9 x 1.63 mm, Pitch 0.95 mm; Supplier 1: Digi-Key; Supplier Part Number 1: LTC3200ES6-5#TRM-ND; Supplier 2: Newark; Supplier Part Number 2: 56M7322; Packing: Mini Tape and Reel; RoHS: FALSE; Mounting Technology: Surface Mount; Code_JEDEC: MO-193; ComponentLink1Description: Manufacturer URL; ComponentLink1URL: http://www.linear.com/; ComponentLink2Description: Datasheet; ComponentLink2URL: http://cds.linear.com/docs/en/datasheet/32005f.pdf; ComponentLink3Description: Package Specification; ComponentLink3URL: http://cds.linear.com/docs/en/packaging/SOT_6_05-08-1636.pdf
footprint LT-S6-6-TSOT-23_N (SOT23, 6-Leads, Body 2.9x1.75mm, Pitch 0.95mm, IPC Medium Density)
footprint LT-S6-6-TSOT-23_L (SOT23, 6-Leads, Body 2.9x1.75mm, Pitch 0.95mm, IPC High Density)
footprint LT-S6-6-TSOT-23_M (SOT23, 6-Leads, Body 2.9x1.75mm, Pitch 0.95mm, IPC Low Density)
pins: 1 VOUT (power), 2 GND (power) "Ground. Should be tied to a ground plane for best performance.", 3 ~{SHDN} (in), 4 C- "Flying Capacitor Negative Terminal", 5 VIN (power), 6 C+ "Flying Capacitor Positive Terminal."

## LTC3200ES6-5#TRMPBF
designator U?
Low Noise, Doubler / White LED Driver, 2.7 to 4.5 V Vin, 5 V Vout MAX, 6-pin SOT23 (S6-6), -40 to 85 degC, Pb-Free, Mini Tape and Reel; Manufacturer: Linear Technology; PartNumber: LTC3200ES6-5#TRMPBF; Topology: Charge Pump, LED Driver; Vin Min(V): 2.7; PackageVersion: Jun-10; PackageReference: S6-6; PackageDescription: 6-Pin Plastic TSOT-23, Body 2.9 x 1.63 mm, Pitch 0.95 mm; Supplier 1: Digi-Key; Supplier Part Number 1: LTC3200ES6-5#TRMPBFTR-ND; Supplier 2: Digi-Key; Supplier Part Number 2: LTC3200ES6-5#TRMPBFCT-ND; Supplier 3: Digi-Key; Supplier Part Number 3: LTC3200ES6-5#TRMPBFDKR-ND; Supplier 4: Newark; Supplier Part Number 4: 56M7323; Packing: Mini Tape and Reel; RoHS: TRUE; Mounting Technology: Surface Mount; Code_JEDEC: MO-193; ComponentLink1Description: Manufacturer URL; ComponentLink1URL: http://www.linear.com/; ComponentLink2Description: Datasheet; ComponentLink2URL: http://cds.linear.com/docs/en/datasheet/32005f.pdf; ComponentLink3Description: Package Specification; ComponentLink3URL: http://cds.linear.com/docs/en/packaging/SOT_6_05-08-1636.pdf
footprint LT-S6-6-TSOT-23_N (SOT23, 6-Leads, Body 2.9x1.75mm, Pitch 0.95mm, IPC Medium Density)
footprint LT-S6-6-TSOT-23_L (SOT23, 6-Leads, Body 2.9x1.75mm, Pitch 0.95mm, IPC High Density)
footprint LT-S6-6-TSOT-23_M (SOT23, 6-Leads, Body 2.9x1.75mm, Pitch 0.95mm, IPC Low Density)
pins: 1 VOUT (power), 2 GND (power) "Ground. Should be tied to a ground plane for best performance.", 3 ~{SHDN} (in), 4 C- "Flying Capacitor Negative Terminal", 5 VIN (power), 6 C+ "Flying Capacitor Positive Terminal."

## LTC3200ES6-5#TRPBF
designator U?
Low Noise, Doubler / White LED Driver, 2.7 to 4.5 V Vin, 5 V Vout MAX, 6-pin SOT23 (S6-6), -40 to 85 degC, Pb-Free, Tape and Reel; Manufacturer: Linear Technology; PartNumber: LTC3200ES6-5#TRPBF; Topology: Charge Pump, LED Driver; Vin Min(V): 2.7; PackageVersion: Jun-10; PackageReference: S6-6; PackageDescription: 6-Pin Plastic TSOT-23, Body 2.9 x 1.63 mm, Pitch 0.95 mm; Supplier 1: Digi-Key; Supplier Part Number 1: LTC3200ES6-5#TRPBF-ND; Supplier 2: Newark; Supplier Part Number 2: 56M7324; Packing: Tape and Reel; RoHS: TRUE; Mounting Technology: Surface Mount; Code_JEDEC: MO-193; ComponentLink1Description: Manufacturer URL; ComponentLink1URL: http://www.linear.com/; ComponentLink2Description: Datasheet; ComponentLink2URL: http://cds.linear.com/docs/en/datasheet/32005f.pdf; ComponentLink3Description: Package Specification; ComponentLink3URL: http://cds.linear.com/docs/en/packaging/SOT_6_05-08-1636.pdf
footprint LT-S6-6-TSOT-23_N (SOT23, 6-Leads, Body 2.9x1.75mm, Pitch 0.95mm, IPC Medium Density)
footprint LT-S6-6-TSOT-23_L (SOT23, 6-Leads, Body 2.9x1.75mm, Pitch 0.95mm, IPC High Density)
footprint LT-S6-6-TSOT-23_M (SOT23, 6-Leads, Body 2.9x1.75mm, Pitch 0.95mm, IPC Low Density)
pins: 1 VOUT (power), 2 GND (power) "Ground. Should be tied to a ground plane for best performance.", 3 ~{SHDN} (in), 4 C- "Flying Capacitor Negative Terminal", 5 VIN (power), 6 C+ "Flying Capacitor Positive Terminal."

## LTC3201EMS
designator U?
Ultralow Noise, White LED Driver, 2.7 to 4.5 V Vin, 4.5 V Vout MAX, 10-pin SOP (MS-10), -40 to 85 degC; Manufacturer: Linear Technology; PartNumber: LTC3201EMS; Topology: Charge Pump, LED Driver; Vin Min(V): 2.7; PackageVersion: Rev. E, 06/2010; PackageReference: MS-10; PackageDescription: 10-Pin Plastic MSOP, Body 3 x 3 mm, Pitch 0.5 mm; Supplier 1: Digi-Key; Supplier Part Number 1: LTC3201EMS-ND; RoHS: FALSE; Mounting Technology: Surface Mount; ComponentLink1Description: Manufacturer URL; ComponentLink1URL: http://www.linear.com/; ComponentLink2Description: Datasheet; ComponentLink2URL: http://cds.linear.com/docs/en/datasheet/3201f.pdf; ComponentLink3Description: Package Specification; ComponentLink3URL: http://cds.linear.com/docs/en/packaging/05081661_F_MS.pdf
footprint LT-MS-10_N (SOP, 10-Leads, Body 3.1x3.1mm, Pitch 0.5mm, IPC Medium Density)
footprint LT-MS-10_L (SOP, 10-Leads, Body 3.1x3.1mm, Pitch 0.5mm, IPC High Density)
footprint LT-MS-10_M (SOP, 10-Leads, Body 3.1x3.1mm, Pitch 0.5mm, IPC Low Density)
pins: 1 VOUT (power) "Charge Pump Output. Bypass with a 1uF ceramic capacitor to GND.", 2 CP "Flying Capacitor Positive Terminal.", 3 FILTER "Input Noise Filter Terminal. Bypass with a 0.22uF high resonant frequency ceramic capacitor to GND. Place filter capacitor less than 1/8" from device.", 4 CM "Flying Capacitor Negative Terminal.", 5 GND (power) "Ground. Connect to a ground plane for best performance.", 6 D0 (in) "Current Control DAC LSB Input.", 7 D1 (in) "Current Control DAC Bit 1 Input.", 8 D2 (in) "Current Control DAC MSB Input. Inputs D0 to D2 program a 3-bit DAC output which is used as the internal reference voltage. The DAC output reference voltage is used to regulate amount of current flowing through the LEDs. An (See Datasheet)", 9 VIN (power) "Input Voltage. VIN may be between 2.7V and 4.5V. Bypass VIN with a 1uF low ESR capacitor to ground.", 10 FB (in) "Charge Pump Feedback Input. This pin acts as a sense pin for IOUT. Connect a sense resistor between FB and GND to set the output current. IOUT will be adjusted until VFB = internal DAC output reference."